# Altium integrated library Linear Technology Power Management Hot Swap Controllers.IntLib: 992 symbols (part 40 of 93)
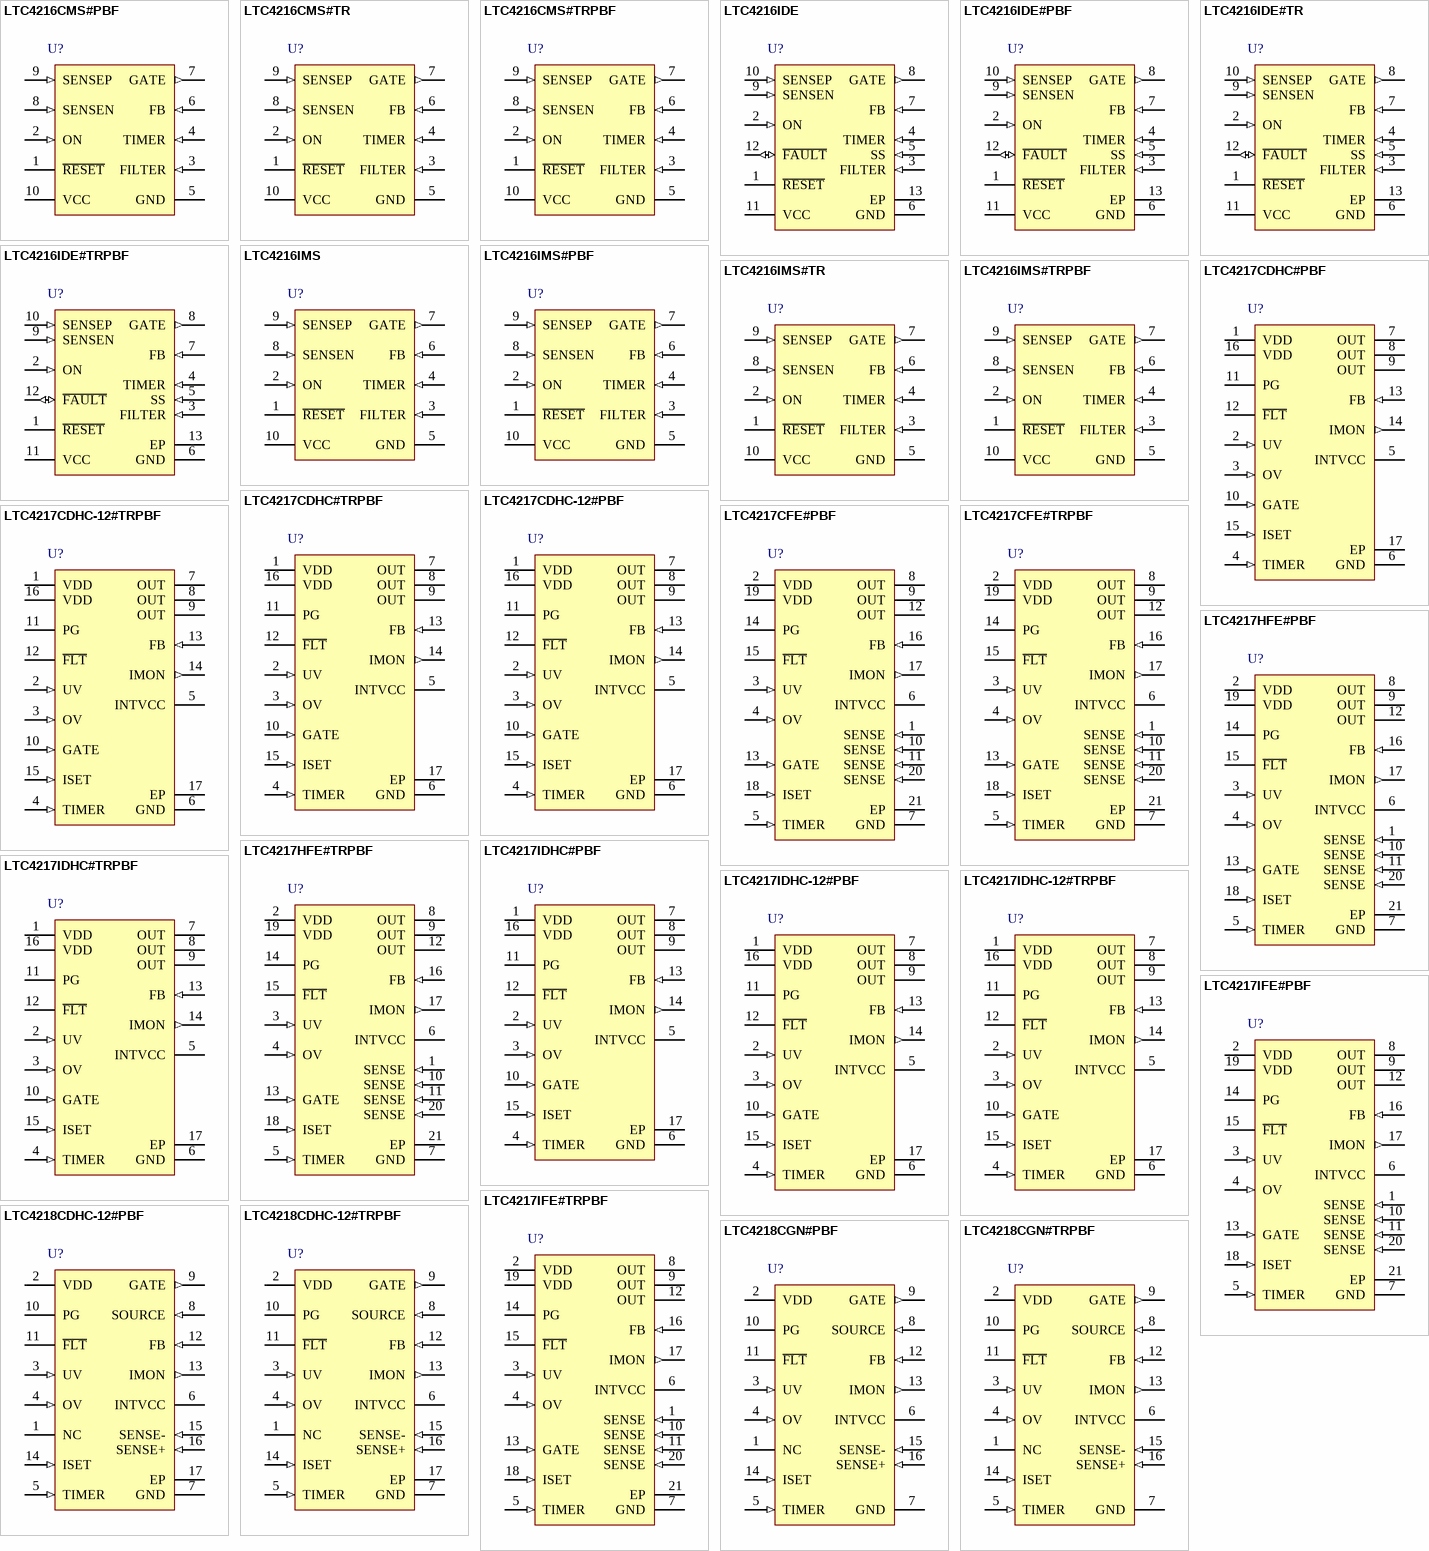
[diagram p76: symbols LTC4216CMS#PBF to LTC4218CGN#TRPBF]

## LTC4216IMS#TRPBF
designator U?
Ultralow Voltage Hot Swap Controller, 0 to 6 V Vin, 10-pin SOP (MS-10), -40 to 85 degC, Pb-Free, Tape and Reel; Manufacturer: Linear Technology; PartNumber: LTC4216IMS#TRPBF; Active Limiting: yes; Circuit Breaker Accuracy(%): 14; Circuit Breaker Threshold: 25 mV; Circuit Breakers(#): 1; Extended Temp: C, I; Fast Comparator: no; In-Rush Current: Active/SS; Vin Range: 0 to 6 V; DatasheetVersion: Rev. A; PackageVersion: Rev. E, 06/2010; PackageReference: MS-10; PackageDescription: 10-Pin Plastic MSOP, Body 3 x 3 mm, Pitch 0.5 mm; Supplier 1: Digi-Key; Supplier Part Number 1: LTC4216IMS#TRPBF-ND; Fault: yes; Foldback: no; Packing: Tape and Reel; Power Good: no; Reset: yes; RoHS: TRUE; Mounting Technology: Surface Mount; ComponentLink1Description: Manufacturer URL; ComponentLink1URL: http://www.linear.com/; ComponentLink2Description: Datasheet; ComponentLink2URL: http://cds.linear.com/docs/en/datasheet/4216fa.pdf; ComponentLink3Description: Package Specification; ComponentLink3URL: http://cds.linear.com/docs/en/packaging/05081661_F_MS.pdf
footprint LT-MS-10_N (SOP, 10-Leads, Body 3.1x3.1mm, Pitch 0.5mm, IPC Medium Density)
footprint LT-MS-10_L (SOP, 10-Leads, Body 3.1x3.1mm, Pitch 0.5mm, IPC High Density)
footprint LT-MS-10_M (SOP, 10-Leads, Body 3.1x3.1mm, Pitch 0.5mm, IPC Low Density)
pins: 1 ~{RESET} (hiz) "Reset or Power-Good Output. Open drain output that pulls low if the FB pin voltage falls below its threshold (0.6V). During the start-up cycle, the R\E\S\E\T\ pin goes high impedance at the end of the second timing cycle (See Datasheet)", 2 ON (in) "ON Control Input. A rising edge above the ON pin threshold (0.8V) initiates the start-up cycle and turns on the external N-channel MOSFET. A falling edge below 0.72V (80mV ON pin hysteresis) turns it off. If this pin is (See Datasheet)", 3 FILTER (in) "Fault Filter Input. Connect a capacitor between this pin and ground to set up the fault filter delay. This pin sources 60uA or sinks 2.4uA when the voltage across the sense resistor exceeds 25mV or drops below 25mV (See Datasheet)", 4 TIMER (in) "Timer Input. Connect a capacitor between this pin and ground to set up the start-up timing cycle duration. It also defines the R\E\S\E\T\ power-good delay from the instant the FB pin voltage exceeds 0.6V. This pin sources (See Datasheet)", 5 GND (power) "Device Ground.", 6 FB (in) "Output Monitor for Reset Output. A resistive divider from the external MOSFET’s source terminal is tied to this pin. When the voltage at this pin drops below 0.6V, the R\E\S\E\T\ pin pulls low. The FB comparator fallin(See Datasheet)", 7 GATE (out) "Gate Drive for External N-Channel MOSFET. An internal charge pump provides 20uA gate pull-up current and sufficient gate overdrive to the external MOSFET. An internal shunt regulator limits the GATE pin voltage to about 6.2V (See Datasheet)", 8 SENSEN (in) "Circuit Breaker Negative Sense Input. Connect this pin to the sense resistor terminal wired to the drain of the external N-channel MOSFET. The sense resistor is placed in the power path between SENSEP and SENSEN pins to (See Datasheet)", 9 SENSEP (in) "Circuit Breaker Positive Sense Input. Connect this pin to the sense resistor terminal wired to the positive supply input for the external output load. This positive supply range extends from 0V to 6V.", 10 VCC (power) "Bias Supply Input. Operates from 2.3V to 6V. An internal undervoltage lockout circuit disables the device until the input supply voltage at VCC exceeds 2.12V typically."

## LTC4217CDHC#PBF
designator U?
2 A Integrated Hot Swap Controller, 2.9 to 26.5 V Vin, 16-pin SON (DHC-16), 0 to 70 degC, Pb-Free; Manufacturer: Linear Technology; PartNumber: LTC4217CDHC#PBF; Active Limiting: yes; Circuit Breaker Accuracy(%): 7.5; Circuit Breaker Threshold: 2 A; Circuit Breakers(#): 1; Extended Temp: C, I, H; Fast Comparator: no; DatasheetVersion: Rev. E; PackageVersion: Jun-10; PackageReference: DHC-16; PackageDescription: 16-Pin Plastic DFN, Body 5 x 3 mm, Pitch 0.5 mm; Supplier 1: Digi-Key; Supplier Part Number 1: LTC4217CDHC#PBF-ND; Supplier 2: Newark; Supplier Part Number 2: 07P8322; Fault: no; Foldback: no; Power Good: yes; Reset: no; RoHS: TRUE; Vin Range: 2.9 to 26.5 V; Mounting Technology: Surface Mount; Code_JEDEC: MO-229; ComponentLink1Description: Manufacturer URL; ComponentLink1URL: http://www.linear.com/; ComponentLink2Description: Datasheet; ComponentLink2URL: http://cds.linear.com/docs/en/datasheet/4217fe.pdf; ComponentLink3Description: Package Specification; ComponentLink3URL: http://cds.linear.com/docs/en/packaging/DFN_16_05-08-1706.pdf
footprint LT-DHC-16_V (SON, 16-Leads, Body 5x3mm, Pitch 0.5mm, Thermal Pad 4.4X1.65mm)
pins: 1 VDD (power) "Supply Voltage and Current Sense Input. This pin  has an undervoltage lockout threshold of 2.73V.", 2 UV (in) "Undervoltage Comparator Input. Tie high if unused.  Connect this pin to an external resistive divider from VDD.  If the UV pin voltage falls below 1.15V, an undervoltage is  detected and the switch turns off. Pulling this (See Datasheet)", 3 OV (in) "Overvoltage Comparator Input. Connect this pin to an  external resistive divider from VDD. If the voltage at this  pin rises above 1.235V, an overvoltage is detected and  the switch turns off. Tie to GND if unused.", 4 TIMER (in) "Timer Input. Connect a capacitor between this pin  and ground to set a 12ms/uF duration for current limit  before the switch is turned off. If the UV pin is toggled  low while the MOSFET switch is off, the switch will turn  (See Datasheet)", 5 INTVCC (power) "Internal 3.1V Supply Decoupling Output. This pin  must have a 0.1uF or larger bypass capacitor.", 6 GND (power) "Device Ground.", 7 OUT (power) "Output of Internal MOSFET Switch. Connect this pin  directly to the load.", 8 OUT (power) "Output of Internal MOSFET Switch. Connect this pin  directly to the load.", 9 OUT (power) "Output of Internal MOSFET Switch. Connect this pin  directly to the load.", 10 GATE (in) "Gate Drive for Internal N-channel MOSFET. An  internal 24uA current source charges the gate of the  N-channel MOSFET. At start-up the GATE pin ramps up at  a 0.3V/ms rate determined by internal circuitry. During an  (See Datasheet)", 11 PG (oc) "Power Good Indicator. Open-drain output pulls low  when the FB pin drops below 1.21V indicating the power is  bad. If the FB pin rises above 1.23V and the GATE to OUT  voltage exceeds 4.2V, the open-drain pull-down releases  (See Datasheet)", 12 ~{FLT} (oc) "Overcurrent Fault Indicator. Open-drain output pulls  low when an overcurrent fault has occurred and the circuit  breaker trips. For overcurrent auto-retry tie to UV pin (see  the Applications Information section for (See Datasheet)", 13 FB (in) "Foldback and Power Good Input. Connect this pin to  an external resistive divider from OUT. If the voltage falls  below 0.6V, the current limit is reduced using a foldback  profile (see the Typical Performance (See Datasheet)", 14 IMON (out) "Current Monitor Output. The current in the internal  MOSFET switch is divided by 50,000 and sourced from this pin. Placing a 20k resistor from this pin to GND creates a  0V to 2V voltage swing when current ranges from 0A to (See Datasheet)", 15 ISET (in) "Current Limit Adjustment Pin. For a 5.6A current limit  value open this pin. This pin is driven by a 20k resistor in  series with a voltage source. The pin voltage is used to  generatethecurrentlimitthreshold. Theinternal (See Datasheet)", 16 VDD (power) "Supply Voltage and Current Sense Input. This pin  has an undervoltage lockout threshold of 2.73V.", 17 EP "Current Sense Node and MOSFET Drain. The current limit circuit controls the GATE pin to limit the sense  voltage between the VDD and SENSE pins to 42mV (5.6A)  or less depending on the voltage at the FB pin. The exposed  pad (See Datasheet)"

## LTC4217CDHC#TRPBF
designator U?
2 A Integrated Hot Swap Controller, 2.9 to 26.5 V Vin, 16-pin SON (DHC-16), 0 to 70 degC, Pb-Free, Tape and Reel; Manufacturer: Linear Technology; PartNumber: LTC4217CDHC#TRPBF; Active Limiting: yes; Circuit Breaker Accuracy(%): 7.5; Circuit Breaker Threshold: 2 A; Circuit Breakers(#): 1; Extended Temp: C, I, H; Fast Comparator: no; DatasheetVersion: Rev. E; PackageVersion: Jun-10; PackageReference: DHC-16; PackageDescription: 16-Pin Plastic DFN, Body 5 x 3 mm, Pitch 0.5 mm; Supplier 1: Digi-Key; Supplier Part Number 1: LTC4217CDHC#TRPBF-ND; Supplier 2: Newark; Supplier Part Number 2: 07P8323; Fault: no; Foldback: no; Packing: Tape and Reel; Power Good: yes; Reset: no; RoHS: TRUE; Vin Range: 2.9 to 26.5 V; Mounting Technology: Surface Mount; Code_JEDEC: MO-229; ComponentLink1Description: Manufacturer URL; ComponentLink1URL: http://www.linear.com/; ComponentLink2Description: Datasheet; ComponentLink2URL: http://cds.linear.com/docs/en/datasheet/4217fe.pdf; ComponentLink3Description: Package Specification; ComponentLink3URL: http://cds.linear.com/docs/en/packaging/DFN_16_05-08-1706.pdf
footprint LT-DHC-16_V (SON, 16-Leads, Body 5x3mm, Pitch 0.5mm, Thermal Pad 4.4X1.65mm)
pins: 1 VDD (power) "Supply Voltage and Current Sense Input. This pin  has an undervoltage lockout threshold of 2.73V.", 2 UV (in) "Undervoltage Comparator Input. Tie high if unused.  Connect this pin to an external resistive divider from VDD.  If the UV pin voltage falls below 1.15V, an undervoltage is  detected and the switch turns off. Pulling this (See Datasheet)", 3 OV (in) "Overvoltage Comparator Input. Connect this pin to an  external resistive divider from VDD. If the voltage at this  pin rises above 1.235V, an overvoltage is detected and  the switch turns off. Tie to GND if unused.", 4 TIMER (in) "Timer Input. Connect a capacitor between this pin  and ground to set a 12ms/uF duration for current limit  before the switch is turned off. If the UV pin is toggled  low while the MOSFET switch is off, the switch will turn  (See Datasheet)", 5 INTVCC (power) "Internal 3.1V Supply Decoupling Output. This pin  must have a 0.1uF or larger bypass capacitor.", 6 GND (power) "Device Ground.", 7 OUT (power) "Output of Internal MOSFET Switch. Connect this pin  directly to the load.", 8 OUT (power) "Output of Internal MOSFET Switch. Connect this pin  directly to the load.", 9 OUT (power) "Output of Internal MOSFET Switch. Connect this pin  directly to the load.", 10 GATE (in) "Gate Drive for Internal N-channel MOSFET. An  internal 24uA current source charges the gate of the  N-channel MOSFET. At start-up the GATE pin ramps up at  a 0.3V/ms rate determined by internal circuitry. During an  (See Datasheet)", 11 PG (oc) "Power Good Indicator. Open-drain output pulls low  when the FB pin drops below 1.21V indicating the power is  bad. If the FB pin rises above 1.23V and the GATE to OUT  voltage exceeds 4.2V, the open-drain pull-down releases  (See Datasheet)", 12 ~{FLT} (oc) "Overcurrent Fault Indicator. Open-drain output pulls  low when an overcurrent fault has occurred and the circuit  breaker trips. For overcurrent auto-retry tie to UV pin (see  the Applications Information section for (See Datasheet)", 13 FB (in) "Foldback and Power Good Input. Connect this pin to  an external resistive divider from OUT. If the voltage falls  below 0.6V, the current limit is reduced using a foldback  profile (see the Typical Performance (See Datasheet)", 14 IMON (out) "Current Monitor Output. The current in the internal  MOSFET switch is divided by 50,000 and sourced from this pin. Placing a 20k resistor from this pin to GND creates a  0V to 2V voltage swing when current ranges from 0A to (See Datasheet)", 15 ISET (in) "Current Limit Adjustment Pin. For a 5.6A current limit  value open this pin. This pin is driven by a 20k resistor in  series with a voltage source. The pin voltage is used to  generatethecurrentlimitthreshold. Theinternal (See Datasheet)", 16 VDD (power) "Supply Voltage and Current Sense Input. This pin  has an undervoltage lockout threshold of 2.73V.", 17 EP "Current Sense Node and MOSFET Drain. The current limit circuit controls the GATE pin to limit the sense  voltage between the VDD and SENSE pins to 42mV (5.6A)  or less depending on the voltage at the FB pin. The exposed  pad (See Datasheet)"

## LTC4217CDHC-12#PBF
designator U?
2 A Integrated Hot Swap Controller, 2.9 to 26.5 V Vin, 16-pin SON (DHC-16), 0 to 70 degC, Pb-Free; Manufacturer: Linear Technology; PartNumber: LTC4217CDHC-12#PBF; Active Limiting: yes; Circuit Breaker Accuracy(%): 7.5; Circuit Breaker Threshold: 2 A; Circuit Breakers(#): 1; Extended Temp: C, I, H; Fast Comparator: no; DatasheetVersion: Rev. E; PackageVersion: Jun-10; PackageReference: DHC-16; PackageDescription: 16-Pin Plastic DFN, Body 5 x 3 mm, Pitch 0.5 mm; Supplier 1: Digi-Key; Supplier Part Number 1: LTC4217CDHC-12#PBF-ND; Supplier 2: Farnell; Supplier Part Number 2: 1715249; Fault: no; Foldback: no; Power Good: yes; Reset: no; RoHS: TRUE; Vin Range: 2.9 to 26.5 V; Mounting Technology: Surface Mount; Code_JEDEC: MO-229; ComponentLink1Description: Manufacturer URL; ComponentLink1URL: http://www.linear.com/; ComponentLink2Description: Datasheet; ComponentLink2URL: http://cds.linear.com/docs/en/datasheet/4217fe.pdf; ComponentLink3Description: Package Specification; ComponentLink3URL: http://cds.linear.com/docs/en/packaging/DFN_16_05-08-1706.pdf
footprint LT-DHC-16_V (SON, 16-Leads, Body 5x3mm, Pitch 0.5mm, Thermal Pad 4.4X1.65mm)
pins: 1 VDD (power) "Supply Voltage and Current Sense Input. This pin  has an undervoltage lockout threshold of 2.73V.", 2 UV (in) "Undervoltage Comparator Input. Tie high if unused.  Connect this pin to an external resistive divider from VDD.  If the UV pin voltage falls below 1.15V, an undervoltage is  detected and the switch turns off. Pulling this (See Datasheet)", 3 OV (in) "Overvoltage Comparator Input. Connect this pin to an  external resistive divider from VDD. If the voltage at this  pin rises above 1.235V, an overvoltage is detected and  the switch turns off. Tie to GND if unused.", 4 TIMER (in) "Timer Input. Connect a capacitor between this pin  and ground to set a 12ms/uF duration for current limit  before the switch is turned off. If the UV pin is toggled  low while the MOSFET switch is off, the switch will turn  (See Datasheet)", 5 INTVCC (power) "Internal 3.1V Supply Decoupling Output. This pin  must have a 0.1uF or larger bypass capacitor.", 6 GND (power) "Device Ground.", 7 OUT (power) "Output of Internal MOSFET Switch. Connect this pin  directly to the load.", 8 OUT (power) "Output of Internal MOSFET Switch. Connect this pin  directly to the load.", 9 OUT (power) "Output of Internal MOSFET Switch. Connect this pin  directly to the load.", 10 GATE (in) "Gate Drive for Internal N-channel MOSFET. An  internal 24uA current source charges the gate of the  N-channel MOSFET. At start-up the GATE pin ramps up at  a 0.3V/ms rate determined by internal circuitry. During an  (See Datasheet)", 11 PG (oc) "Power Good Indicator. Open-drain output pulls low  when the FB pin drops below 1.21V indicating the power is  bad. If the FB pin rises above 1.23V and the GATE to OUT  voltage exceeds 4.2V, the open-drain pull-down releases  (See Datasheet)", 12 ~{FLT} (oc) "Overcurrent Fault Indicator. Open-drain output pulls  low when an overcurrent fault has occurred and the circuit  breaker trips. For overcurrent auto-retry tie to UV pin (see  the Applications Information section for (See Datasheet)", 13 FB (in) "Foldback and Power Good Input. Connect this pin to  an external resistive divider from OUT. If the voltage falls  below 0.6V, the current limit is reduced using a foldback  profile (see the Typical Performance (See Datasheet)", 14 IMON (out) "Current Monitor Output. The current in the internal  MOSFET switch is divided by 50,000 and sourced from this pin. Placing a 20k resistor from this pin to GND creates a  0V to 2V voltage swing when current ranges from 0A to (See Datasheet)", 15 ISET (in) "Current Limit Adjustment Pin. For a 5.6A current limit  value open this pin. This pin is driven by a 20k resistor in  series with a voltage source. The pin voltage is used to  generatethecurrentlimitthreshold. Theinternal (See Datasheet)", 16 VDD (power) "Supply Voltage and Current Sense Input. This pin  has an undervoltage lockout threshold of 2.73V.", 17 EP "Current Sense Node and MOSFET Drain. The current limit circuit controls the GATE pin to limit the sense  voltage between the VDD and SENSE pins to 42mV (5.6A)  or less depending on the voltage at the FB pin. The exposed  pad (See Datasheet)"

## LTC4217CDHC-12#TRPBF
designator U?
2 A Integrated Hot Swap Controller, 2.9 to 26.5 V Vin, 16-pin SON (DHC-16), 0 to 70 degC, Pb-Free, Tape and Reel; Manufacturer: Linear Technology; PartNumber: LTC4217CDHC-12#TRPBF; Active Limiting: yes; Circuit Breaker Accuracy(%): 7.5; Circuit Breaker Threshold: 2 A; Circuit Breakers(#): 1; Extended Temp: C, I, H; Fast Comparator: no; DatasheetVersion: Rev. E; PackageVersion: Jun-10; PackageReference: DHC-16; PackageDescription: 16-Pin Plastic DFN, Body 5 x 3 mm, Pitch 0.5 mm; Supplier 1: Digi-Key; Supplier Part Number 1: LTC4217CDHC-12#TRPBF-ND; Fault: no; Foldback: no; Packing: Tape and Reel; Power Good: yes; Reset: no; RoHS: TRUE; Vin Range: 2.9 to 26.5 V; Mounting Technology: Surface Mount; Code_JEDEC: MO-229; ComponentLink1Description: Manufacturer URL; ComponentLink1URL: http://www.linear.com/; ComponentLink2Description: Datasheet; ComponentLink2URL: http://cds.linear.com/docs/en/datasheet/4217fe.pdf; ComponentLink3Description: Package Specification; ComponentLink3URL: http://cds.linear.com/docs/en/packaging/DFN_16_05-08-1706.pdf
footprint LT-DHC-16_V (SON, 16-Leads, Body 5x3mm, Pitch 0.5mm, Thermal Pad 4.4X1.65mm)
pins: 1 VDD (power) "Supply Voltage and Current Sense Input. This pin  has an undervoltage lockout threshold of 2.73V.", 2 UV (in) "Undervoltage Comparator Input. Tie high if unused.  Connect this pin to an external resistive divider from VDD.  If the UV pin voltage falls below 1.15V, an undervoltage is  detected and the switch turns off. Pulling this (See Datasheet)", 3 OV (in) "Overvoltage Comparator Input. Connect this pin to an  external resistive divider from VDD. If the voltage at this  pin rises above 1.235V, an overvoltage is detected and  the switch turns off. Tie to GND if unused.", 4 TIMER (in) "Timer Input. Connect a capacitor between this pin  and ground to set a 12ms/uF duration for current limit  before the switch is turned off. If the UV pin is toggled  low while the MOSFET switch is off, the switch will turn  (See Datasheet)", 5 INTVCC (power) "Internal 3.1V Supply Decoupling Output. This pin  must have a 0.1uF or larger bypass capacitor.", 6 GND (power) "Device Ground.", 7 OUT (power) "Output of Internal MOSFET Switch. Connect this pin  directly to the load.", 8 OUT (power) "Output of Internal MOSFET Switch. Connect this pin  directly to the load.", 9 OUT (power) "Output of Internal MOSFET Switch. Connect this pin  directly to the load.", 10 GATE (in) "Gate Drive for Internal N-channel MOSFET. An  internal 24uA current source charges the gate of the  N-channel MOSFET. At start-up the GATE pin ramps up at  a 0.3V/ms rate determined by internal circuitry. During an  (See Datasheet)", 11 PG (oc) "Power Good Indicator. Open-drain output pulls low  when the FB pin drops below 1.21V indicating the power is  bad. If the FB pin rises above 1.23V and the GATE to OUT  voltage exceeds 4.2V, the open-drain pull-down releases  (See Datasheet)", 12 ~{FLT} (oc) "Overcurrent Fault Indicator. Open-drain output pulls  low when an overcurrent fault has occurred and the circuit  breaker trips. For overcurrent auto-retry tie to UV pin (see  the Applications Information section for (See Datasheet)", 13 FB (in) "Foldback and Power Good Input. Connect this pin to  an external resistive divider from OUT. If the voltage falls  below 0.6V, the current limit is reduced using a foldback  profile (see the Typical Performance (See Datasheet)", 14 IMON (out) "Current Monitor Output. The current in the internal  MOSFET switch is divided by 50,000 and sourced from this pin. Placing a 20k resistor from this pin to GND creates a  0V to 2V voltage swing when current ranges from 0A to (See Datasheet)", 15 ISET (in) "Current Limit Adjustment Pin. For a 5.6A current limit  value open this pin. This pin is driven by a 20k resistor in  series with a voltage source. The pin voltage is used to  generatethecurrentlimitthreshold. Theinternal (See Datasheet)", 16 VDD (power) "Supply Voltage and Current Sense Input. This pin  has an undervoltage lockout threshold of 2.73V.", 17 EP "Current Sense Node and MOSFET Drain. The current limit circuit controls the GATE pin to limit the sense  voltage between the VDD and SENSE pins to 42mV (5.6A)  or less depending on the voltage at the FB pin. The exposed  pad (See Datasheet)"

## LTC4217CFE#PBF
designator U?
2 A Integrated Hot Swap Controller, 2.9 to 26.5 V Vin, 20-pin SOP (FE-20-EPV-CA), 0 to 70 degC, Pb-Free; Manufacturer: Linear Technology; PartNumber: LTC4217CFE#PBF; Active Limiting: yes; Circuit Breaker Accuracy(%): 7.5; Circuit Breaker Threshold: 2 A; Circuit Breakers(#): 1; Extended Temp: C, I, H; Fast Comparator: no; DatasheetVersion: Rev. E; PackageVersion: Rev. I, 05/2011; PackageReference: FE-20; PackageDescription: 20-Pin Plastic TSSOP, Body 6.5 x 4.4 mm, Pitch 0.65 mm; Supplier 1: Digi-Key; Supplier Part Number 1: LTC4217CFE#PBF-ND; Supplier 2: Farnell; Supplier Part Number 2: 2295335; Fault: no; Foldback: no; Power Good: yes; Reset: no; RoHS: TRUE; Vin Range: 2.9 to 26.5 V; Mounting Technology: Surface Mount; ComponentLink1Description: Manufacturer URL; ComponentLink1URL: http://www.linear.com/; ComponentLink2Description: Datasheet; ComponentLink2URL: http://cds.linear.com/docs/en/datasheet/4217fe.pdf; ComponentLink3Description: Package Specification; ComponentLink3URL: http://cds.linear.com/docs/en/packaging/05081663__JFE20(CA).pdf
footprint LT-FE-20-EPV-CA_N (SOP, 20-Leads, Body 6.6x4.5mm, Pitch 0.65mm, Thermal Pad 4.95x2.74mm, IPC Medium Density)
footprint LT-FE-20-EPV-CA_L (SOP, 20-Leads, Body 6.6x4.5mm, Pitch 0.65mm, Thermal Pad 4.95x2.74mm, IPC High Density)
footprint LT-FE-20-EPV-CA_M (SOP, 20-Leads, Body 6.6x4.5mm, Pitch 0.65mm, Thermal Pad 4.95x2.74mm, IPC Low Density)
pins: 1 SENSE (in) "Current Sense Node and MOSFET Drain. The current limit circuit controls the GATE pin to limit the sense voltage between the VDD and SENSE pins to 15mV (2A) or less depending on the voltage at the FB pin. The exposed pad on (See Datasheet)", 2 VDD (power) "Supply Voltage and Current Sense Input. This pin has an undervoltage lockout threshold of 2.73V.", 3 UV (in) "Undervoltage Comparator Input. Tie high if unused. Connect this pin to an external resistive divider from VDD for the LTC4217 (adjustable) version. The LTC4217-12 version drives the UV pin with an internal resistive divider (See Datasheet)", 4 OV (in) "Overvoltage Comparator Input. Connect this pin to an external resistive divider from VDD for the LTC4217 (adjustable) version. The LTC4217-12 version uses a fixed internal divider with optional external adjustment for 12V (See Datasheet)", 5 TIMER (in) "Timer Input. Connect a capacitor between this pin and ground to set a 12ms/uF duration for current limit before the switch is turned off. If the UV pin is toggled low while the MOSFET switch is off, the switch will turn on (See Datasheet)", 6 INTVCC (power) "Internal 3V Supply Decoupling Output. This pin must have a 0.1uF or larger bypass capacitor.", 7 GND (power) "Device Ground.", 8 OUT (power) "Output of Internal MOSFET Switch. Connect this pin directly to the load. In the LTC4217-12 version, the PG comparator monitors an internal resistive divider between the OUT pin and GND.", 9 OUT (power) "Output of Internal MOSFET Switch. Connect this pin directly to the load. In the LTC4217-12 version, the PG comparator monitors an internal resistive divider between the OUT pin and GND.", 10 SENSE (in) "Current Sense Node and MOSFET Drain. The current limit circuit controls the GATE pin to limit the sense voltage between the VDD and SENSE pins to 15mV (2A) or less depending on the voltage at the FB pin. The exposed pad on (See Datasheet)", 11 SENSE (in) "Current Sense Node and MOSFET Drain. The current limit circuit controls the GATE pin to limit the sense voltage between the VDD and SENSE pins to 15mV (2A) or less depending on the voltage at the FB pin. The exposed pad on (See Datasheet)", 12 OUT (power) "Output of Internal MOSFET Switch. Connect this pin directly to the load. In the LTC4217-12 version, the PG comparator monitors an internal resistive divider between the OUT pin and GND.", 13 GATE (in) "Gate Drive for Internal N-channel MOSFET. An internal 24uA current source charges the gate of the N-channel MOSFET. At start-up the GATE pin ramps up at a 0.3V/ms rate determined by internal circuitry. During a(See Datasheet)", 14 PG (oc) "Power Good Indicator. Open-drain output pulls low when the FB pin drops below 1.21V indicating the power is bad. If the FB pin rises above 1.23V and the GATE to OUT voltage exceeds 4.2V, the open-drain pull-down releases the (See Datasheet)", 15 ~{FLT} (oc) "Overcurrent Fault Indicator. Open-drain output pulls low when an overcurrent fault has occurred and the circuit breaker trips. For overcurrent auto-retry tie to UV pin (see the Applications Information section for details).", 16 FB (in) "Foldback and Power Good Input. Connect this pin to an external resistive divider from OUT for the LTC4217 (adjustable) version. The LTC4217-12 version uses a fixed internal divider with optional external adjustment. Open the (See Datasheet)", 17 IMON (out) "Current Monitor Output. The current in the internal MOSFET switch is divided by 20,000 and sourced from this pin. Placing a 20k resistor from this pin to GND creates a 0V to 2V voltage swing when current ranges from 0A to 2A.", 18 ISET (in) "Current Limit Adjustment Pin. For a 2A current limit value open this pin. This pin is driven by a 20k resistor in series with a voltage source. The pin voltage is used to generate the current limit threshold. The internal (See Datasheet)", 19 VDD (power) "Supply Voltage and Current Sense Input. This pin has an undervoltage lockout threshold of 2.73V.", 20 SENSE (in) "Current Sense Node and MOSFET Drain. The current limit circuit controls the GATE pin to limit the sense voltage between the VDD and SENSE pins to 15mV (2A) or less depending on the voltage at the FB pin. The exposed pad on (See Datasheet)", 21 EP

## LTC4217CFE#TRPBF
designator U?
2 A Integrated Hot Swap Controller, 2.9 to 26.5 V Vin, 20-pin SOP (FE-20-EPV-CA), 0 to 70 degC, Pb-Free, Tape and Reel; Manufacturer: Linear Technology; PartNumber: LTC4217CFE#TRPBF; Active Limiting: yes; Circuit Breaker Accuracy(%): 7.5; Circuit Breaker Threshold: 2 A; Circuit Breakers(#): 1; Extended Temp: C, I, H; Fast Comparator: no; DatasheetVersion: Rev. E; PackageVersion: Rev. I, 05/2011; PackageReference: FE-20; PackageDescription: 20-Pin Plastic TSSOP, Body 6.5 x 4.4 mm, Pitch 0.65 mm; Supplier 1: Digi-Key; Supplier Part Number 1: LTC4217CFE#TRPBF-ND; Supplier 2: Newark; Supplier Part Number 2: 07P8327; Fault: no; Foldback: no; Packing: Tape and Reel; Power Good: yes; Reset: no; RoHS: TRUE; Vin Range: 2.9 to 26.5 V; Mounting Technology: Surface Mount; ComponentLink1Description: Manufacturer URL; ComponentLink1URL: http://www.linear.com/; ComponentLink2Description: Datasheet; ComponentLink2URL: http://cds.linear.com/docs/en/datasheet/4217fe.pdf; ComponentLink3Description: Package Specification; ComponentLink3URL: http://cds.linear.com/docs/en/packaging/05081663__JFE20(CA).pdf
footprint LT-FE-20-EPV-CA_N (SOP, 20-Leads, Body 6.6x4.5mm, Pitch 0.65mm, Thermal Pad 4.95x2.74mm, IPC Medium Density)
footprint LT-FE-20-EPV-CA_L (SOP, 20-Leads, Body 6.6x4.5mm, Pitch 0.65mm, Thermal Pad 4.95x2.74mm, IPC High Density)
footprint LT-FE-20-EPV-CA_M (SOP, 20-Leads, Body 6.6x4.5mm, Pitch 0.65mm, Thermal Pad 4.95x2.74mm, IPC Low Density)
pins: 1 SENSE (in) "Current Sense Node and MOSFET Drain. The current limit circuit controls the GATE pin to limit the sense voltage between the VDD and SENSE pins to 15mV (2A) or less depending on the voltage at the FB pin. The exposed pad on (See Datasheet)", 2 VDD (power) "Supply Voltage and Current Sense Input. This pin has an undervoltage lockout threshold of 2.73V.", 3 UV (in) "Undervoltage Comparator Input. Tie high if unused. Connect this pin to an external resistive divider from VDD for the LTC4217 (adjustable) version. The LTC4217-12 version drives the UV pin with an internal resistive divider (See Datasheet)", 4 OV (in) "Overvoltage Comparator Input. Connect this pin to an external resistive divider from VDD for the LTC4217 (adjustable) version. The LTC4217-12 version uses a fixed internal divider with optional external adjustment for 12V (See Datasheet)", 5 TIMER (in) "Timer Input. Connect a capacitor between this pin and ground to set a 12ms/uF duration for current limit before the switch is turned off. If the UV pin is toggled low while the MOSFET switch is off, the switch will turn on (See Datasheet)", 6 INTVCC (power) "Internal 3V Supply Decoupling Output. This pin must have a 0.1uF or larger bypass capacitor.", 7 GND (power) "Device Ground.", 8 OUT (power) "Output of Internal MOSFET Switch. Connect this pin directly to the load. In the LTC4217-12 version, the PG comparator monitors an internal resistive divider between the OUT pin and GND.", 9 OUT (power) "Output of Internal MOSFET Switch. Connect this pin directly to the load. In the LTC4217-12 version, the PG comparator monitors an internal resistive divider between the OUT pin and GND.", 10 SENSE (in) "Current Sense Node and MOSFET Drain. The current limit circuit controls the GATE pin to limit the sense voltage between the VDD and SENSE pins to 15mV (2A) or less depending on the voltage at the FB pin. The exposed pad on (See Datasheet)", 11 SENSE (in) "Current Sense Node and MOSFET Drain. The current limit circuit controls the GATE pin to limit the sense voltage between the VDD and SENSE pins to 15mV (2A) or less depending on the voltage at the FB pin. The exposed pad on (See Datasheet)", 12 OUT (power) "Output of Internal MOSFET Switch. Connect this pin directly to the load. In the LTC4217-12 version, the PG comparator monitors an internal resistive divider between the OUT pin and GND.", 13 GATE (in) "Gate Drive for Internal N-channel MOSFET. An internal 24uA current source charges the gate of the N-channel MOSFET. At start-up the GATE pin ramps up at a 0.3V/ms rate determined by internal circuitry. During a(See Datasheet)", 14 PG (oc) "Power Good Indicator. Open-drain output pulls low when the FB pin drops below 1.21V indicating the power is bad. If the FB pin rises above 1.23V and the GATE to OUT voltage exceeds 4.2V, the open-drain pull-down releases the (See Datasheet)", 15 ~{FLT} (oc) "Overcurrent Fault Indicator. Open-drain output pulls low when an overcurrent fault has occurred and the circuit breaker trips. For overcurrent auto-retry tie to UV pin (see the Applications Information section for details).", 16 FB (in) "Foldback and Power Good Input. Connect this pin to an external resistive divider from OUT for the LTC4217 (adjustable) version. The LTC4217-12 version uses a fixed internal divider with optional external adjustment. Open the (See Datasheet)", 17 IMON (out) "Current Monitor Output. The current in the internal MOSFET switch is divided by 20,000 and sourced from this pin. Placing a 20k resistor from this pin to GND creates a 0V to 2V voltage swing when current ranges from 0A to 2A.", 18 ISET (in) "Current Limit Adjustment Pin. For a 2A current limit value open this pin. This pin is driven by a 20k resistor in series with a voltage source. The pin voltage is used to generate the current limit threshold. The internal (See Datasheet)", 19 VDD (power) "Supply Voltage and Current Sense Input. This pin has an undervoltage lockout threshold of 2.73V.", 20 SENSE (in) "Current Sense Node and MOSFET Drain. The current limit circuit controls the GATE pin to limit the sense voltage between the VDD and SENSE pins to 15mV (2A) or less depending on the voltage at the FB pin. The exposed pad on (See Datasheet)", 21 EP

## LTC4217HFE#PBF
designator U?
2 A Integrated Hot Swap Controller, 2.9 to 26.5 V Vin, 20-pin SOP (FE-20-EPV-CA), -40 to 125 degC, Pb-Free; Manufacturer: Linear Technology; PartNumber: LTC4217HFE#PBF; Active Limiting: yes; Circuit Breaker Accuracy(%): 7.5; Circuit Breaker Threshold: 2 A; Circuit Breakers(#): 1; Extended Temp: C, I, H; Fast Comparator: no; DatasheetVersion: Rev. E; PackageVersion: Rev. I, 05/2011; PackageReference: FE-20; PackageDescription: 20-Pin Plastic TSSOP, Body 6.5 x 4.4 mm, Pitch 0.65 mm; Supplier 1: Digi-Key; Supplier Part Number 1: LTC4217HFE#PBF-ND; Fault: no; Foldback: no; Power Good: yes; Reset: no; RoHS: TRUE; Vin Range: 2.9 to 26.5 V; Mounting Technology: Surface Mount; ComponentLink1Description: Manufacturer URL; ComponentLink1URL: http://www.linear.com/; ComponentLink2Description: Datasheet; ComponentLink2URL: http://cds.linear.com/docs/en/datasheet/4217fe.pdf; ComponentLink3Description: Package Specification; ComponentLink3URL: http://cds.linear.com/docs/en/packaging/05081663__JFE20(CA).pdf
footprint LT-FE-20-EPV-CA_N (SOP, 20-Leads, Body 6.6x4.5mm, Pitch 0.65mm, Thermal Pad 4.95x2.74mm, IPC Medium Density)
footprint LT-FE-20-EPV-CA_L (SOP, 20-Leads, Body 6.6x4.5mm, Pitch 0.65mm, Thermal Pad 4.95x2.74mm, IPC High Density)
footprint LT-FE-20-EPV-CA_M (SOP, 20-Leads, Body 6.6x4.5mm, Pitch 0.65mm, Thermal Pad 4.95x2.74mm, IPC Low Density)
pins: 1 SENSE (in) "Current Sense Node and MOSFET Drain. The current limit circuit controls the GATE pin to limit the sense voltage between the VDD and SENSE pins to 15mV (2A) or less depending on the voltage at the FB pin. The exposed pad on (See Datasheet)", 2 VDD (power) "Supply Voltage and Current Sense Input. This pin has an undervoltage lockout threshold of 2.73V.", 3 UV (in) "Undervoltage Comparator Input. Tie high if unused. Connect this pin to an external resistive divider from VDD for the LTC4217 (adjustable) version. The LTC4217-12 version drives the UV pin with an internal resistive divider (See Datasheet)", 4 OV (in) "Overvoltage Comparator Input. Connect this pin to an external resistive divider from VDD for the LTC4217 (adjustable) version. The LTC4217-12 version uses a fixed internal divider with optional external adjustment for 12V (See Datasheet)", 5 TIMER (in) "Timer Input. Connect a capacitor between this pin and ground to set a 12ms/uF duration for current limit before the switch is turned off. If the UV pin is toggled low while the MOSFET switch is off, the switch will turn on (See Datasheet)", 6 INTVCC (power) "Internal 3V Supply Decoupling Output. This pin must have a 0.1uF or larger bypass capacitor.", 7 GND (power) "Device Ground.", 8 OUT (power) "Output of Internal MOSFET Switch. Connect this pin directly to the load. In the LTC4217-12 version, the PG comparator monitors an internal resistive divider between the OUT pin and GND.", 9 OUT (power) "Output of Internal MOSFET Switch. Connect this pin directly to the load. In the LTC4217-12 version, the PG comparator monitors an internal resistive divider between the OUT pin and GND.", 10 SENSE (in) "Current Sense Node and MOSFET Drain. The current limit circuit controls the GATE pin to limit the sense voltage between the VDD and SENSE pins to 15mV (2A) or less depending on the voltage at the FB pin. The exposed pad on (See Datasheet)", 11 SENSE (in) "Current Sense Node and MOSFET Drain. The current limit circuit controls the GATE pin to limit the sense voltage between the VDD and SENSE pins to 15mV (2A) or less depending on the voltage at the FB pin. The exposed pad on (See Datasheet)", 12 OUT (power) "Output of Internal MOSFET Switch. Connect this pin directly to the load. In the LTC4217-12 version, the PG comparator monitors an internal resistive divider between the OUT pin and GND.", 13 GATE (in) "Gate Drive for Internal N-channel MOSFET. An internal 24uA current source charges the gate of the N-channel MOSFET. At start-up the GATE pin ramps up at a 0.3V/ms rate determined by internal circuitry. During a(See Datasheet)", 14 PG (oc) "Power Good Indicator. Open-drain output pulls low when the FB pin drops below 1.21V indicating the power is bad. If the FB pin rises above 1.23V and the GATE to OUT voltage exceeds 4.2V, the open-drain pull-down releases the (See Datasheet)", 15 ~{FLT} (oc) "Overcurrent Fault Indicator. Open-drain output pulls low when an overcurrent fault has occurred and the circuit breaker trips. For overcurrent auto-retry tie to UV pin (see the Applications Information section for details).", 16 FB (in) "Foldback and Power Good Input. Connect this pin to an external resistive divider from OUT for the LTC4217 (adjustable) version. The LTC4217-12 version uses a fixed internal divider with optional external adjustment. Open the (See Datasheet)", 17 IMON (out) "Current Monitor Output. The current in the internal MOSFET switch is divided by 20,000 and sourced from this pin. Placing a 20k resistor from this pin to GND creates a 0V to 2V voltage swing when current ranges from 0A to 2A.", 18 ISET (in) "Current Limit Adjustment Pin. For a 2A current limit value open this pin. This pin is driven by a 20k resistor in series with a voltage source. The pin voltage is used to generate the current limit threshold. The internal (See Datasheet)", 19 VDD (power) "Supply Voltage and Current Sense Input. This pin has an undervoltage lockout threshold of 2.73V.", 20 SENSE (in) "Current Sense Node and MOSFET Drain. The current limit circuit controls the GATE pin to limit the sense voltage between the VDD and SENSE pins to 15mV (2A) or less depending on the voltage at the FB pin. The exposed pad on (See Datasheet)", 21 EP

## LTC4217HFE#TRPBF
designator U?
2 A Integrated Hot Swap Controller, 2.9 to 26.5 V Vin, 20-pin SOP (FE-20-EPV-CA), -40 to 125 degC, Pb-Free, Tape and Reel; Manufacturer: Linear Technology; PartNumber: LTC4217HFE#TRPBF; Active Limiting: yes; Circuit Breaker Accuracy(%): 7.5; Circuit Breaker Threshold: 2 A; Circuit Breakers(#): 1; Extended Temp: C, I, H; Fast Comparator: no; DatasheetVersion: Rev. E; PackageVersion: Rev. I, 05/2011; PackageReference: FE-20; PackageDescription: 20-Pin Plastic TSSOP, Body 6.5 x 4.4 mm, Pitch 0.65 mm; Supplier 1: Digi-Key; Supplier Part Number 1: LTC4217HFE#TRPBF-ND; Fault: no; Foldback: no; Packing: Tape and Reel; Power Good: yes; Reset: no; RoHS: TRUE; Vin Range: 2.9 to 26.5 V; Mounting Technology: Surface Mount; ComponentLink1Description: Manufacturer URL; ComponentLink1URL: http://www.linear.com/; ComponentLink2Description: Datasheet; ComponentLink2URL: http://cds.linear.com/docs/en/datasheet/4217fe.pdf; ComponentLink3Description: Package Specification; ComponentLink3URL: http://cds.linear.com/docs/en/packaging/05081663__JFE20(CA).pdf
footprint LT-FE-20-EPV-CA_N (SOP, 20-Leads, Body 6.6x4.5mm, Pitch 0.65mm, Thermal Pad 4.95x2.74mm, IPC Medium Density)
footprint LT-FE-20-EPV-CA_L (SOP, 20-Leads, Body 6.6x4.5mm, Pitch 0.65mm, Thermal Pad 4.95x2.74mm, IPC High Density)
footprint LT-FE-20-EPV-CA_M (SOP, 20-Leads, Body 6.6x4.5mm, Pitch 0.65mm, Thermal Pad 4.95x2.74mm, IPC Low Density)
pins: 1 SENSE (in) "Current Sense Node and MOSFET Drain. The current limit circuit controls the GATE pin to limit the sense voltage between the VDD and SENSE pins to 15mV (2A) or less depending on the voltage at the FB pin. The exposed pad on (See Datasheet)", 2 VDD (power) "Supply Voltage and Current Sense Input. This pin has an undervoltage lockout threshold of 2.73V.", 3 UV (in) "Undervoltage Comparator Input. Tie high if unused. Connect this pin to an external resistive divider from VDD for the LTC4217 (adjustable) version. The LTC4217-12 version drives the UV pin with an internal resistive divider (See Datasheet)", 4 OV (in) "Overvoltage Comparator Input. Connect this pin to an external resistive divider from VDD for the LTC4217 (adjustable) version. The LTC4217-12 version uses a fixed internal divider with optional external adjustment for 12V (See Datasheet)", 5 TIMER (in) "Timer Input. Connect a capacitor between this pin and ground to set a 12ms/uF duration for current limit before the switch is turned off. If the UV pin is toggled low while the MOSFET switch is off, the switch will turn on (See Datasheet)", 6 INTVCC (power) "Internal 3V Supply Decoupling Output. This pin must have a 0.1uF or larger bypass capacitor.", 7 GND (power) "Device Ground.", 8 OUT (power) "Output of Internal MOSFET Switch. Connect this pin directly to the load. In the LTC4217-12 version, the PG comparator monitors an internal resistive divider between the OUT pin and GND.", 9 OUT (power) "Output of Internal MOSFET Switch. Connect this pin directly to the load. In the LTC4217-12 version, the PG comparator monitors an internal resistive divider between the OUT pin and GND.", 10 SENSE (in) "Current Sense Node and MOSFET Drain. The current limit circuit controls the GATE pin to limit the sense voltage between the VDD and SENSE pins to 15mV (2A) or less depending on the voltage at the FB pin. The exposed pad on (See Datasheet)", 11 SENSE (in) "Current Sense Node and MOSFET Drain. The current limit circuit controls the GATE pin to limit the sense voltage between the VDD and SENSE pins to 15mV (2A) or less depending on the voltage at the FB pin. The exposed pad on (See Datasheet)", 12 OUT (power) "Output of Internal MOSFET Switch. Connect this pin directly to the load. In the LTC4217-12 version, the PG comparator monitors an internal resistive divider between the OUT pin and GND.", 13 GATE (in) "Gate Drive for Internal N-channel MOSFET. An internal 24uA current source charges the gate of the N-channel MOSFET. At start-up the GATE pin ramps up at a 0.3V/ms rate determined by internal circuitry. During a(See Datasheet)", 14 PG (oc) "Power Good Indicator. Open-drain output pulls low when the FB pin drops below 1.21V indicating the power is bad. If the FB pin rises above 1.23V and the GATE to OUT voltage exceeds 4.2V, the open-drain pull-down releases the (See Datasheet)", 15 ~{FLT} (oc) "Overcurrent Fault Indicator. Open-drain output pulls low when an overcurrent fault has occurred and the circuit breaker trips. For overcurrent auto-retry tie to UV pin (see the Applications Information section for details).", 16 FB (in) "Foldback and Power Good Input. Connect this pin to an external resistive divider from OUT for the LTC4217 (adjustable) version. The LTC4217-12 version uses a fixed internal divider with optional external adjustment. Open the (See Datasheet)", 17 IMON (out) "Current Monitor Output. The current in the internal MOSFET switch is divided by 20,000 and sourced from this pin. Placing a 20k resistor from this pin to GND creates a 0V to 2V voltage swing when current ranges from 0A to 2A.", 18 ISET (in) "Current Limit Adjustment Pin. For a 2A current limit value open this pin. This pin is driven by a 20k resistor in series with a voltage source. The pin voltage is used to generate the current limit threshold. The internal (See Datasheet)", 19 VDD (power) "Supply Voltage and Current Sense Input. This pin has an undervoltage lockout threshold of 2.73V.", 20 SENSE (in) "Current Sense Node and MOSFET Drain. The current limit circuit controls the GATE pin to limit the sense voltage between the VDD and SENSE pins to 15mV (2A) or less depending on the voltage at the FB pin. The exposed pad on (See Datasheet)", 21 EP

## LTC4217IDHC#PBF
designator U?
2 A Integrated Hot Swap Controller, 2.9 to 26.5 V Vin, 16-pin SON (DHC-16), -40 to 85 degC, Pb-Free; Manufacturer: Linear Technology; PartNumber: LTC4217IDHC#PBF; Active Limiting: yes; Circuit Breaker Accuracy(%): 7.5; Circuit Breaker Threshold: 2 A; Circuit Breakers(#): 1; Extended Temp: C, I, H; Fast Comparator: no; DatasheetVersion: Rev. E; PackageVersion: Jun-10; PackageReference: DHC-16; PackageDescription: 16-Pin Plastic DFN, Body 5 x 3 mm, Pitch 0.5 mm; Supplier 1: Digi-Key; Supplier Part Number 1: LTC4217IDHC#PBF-ND; Supplier 2: Farnell; Supplier Part Number 2: 2295336; Supplier 3: Newark; Supplier Part Number 3: 07P8330; Fault: no; Foldback: no; Power Good: yes; Reset: no; RoHS: TRUE; Vin Range: 2.9 to 26.5 V; Mounting Technology: Surface Mount; Code_JEDEC: MO-229; ComponentLink1Description: Manufacturer URL; ComponentLink1URL: http://www.linear.com/; ComponentLink2Description: Datasheet; ComponentLink2URL: http://cds.linear.com/docs/en/datasheet/4217fe.pdf; ComponentLink3Description: Package Specification; ComponentLink3URL: http://cds.linear.com/docs/en/packaging/DFN_16_05-08-1706.pdf
footprint LT-DHC-16_V (SON, 16-Leads, Body 5x3mm, Pitch 0.5mm, Thermal Pad 4.4X1.65mm)
pins: 1 VDD (power) "Supply Voltage and Current Sense Input. This pin  has an undervoltage lockout threshold of 2.73V.", 2 UV (in) "Undervoltage Comparator Input. Tie high if unused.  Connect this pin to an external resistive divider from VDD.  If the UV pin voltage falls below 1.15V, an undervoltage is  detected and the switch turns off. Pulling this (See Datasheet)", 3 OV (in) "Overvoltage Comparator Input. Connect this pin to an  external resistive divider from VDD. If the voltage at this  pin rises above 1.235V, an overvoltage is detected and  the switch turns off. Tie to GND if unused.", 4 TIMER (in) "Timer Input. Connect a capacitor between this pin  and ground to set a 12ms/uF duration for current limit  before the switch is turned off. If the UV pin is toggled  low while the MOSFET switch is off, the switch will turn  (See Datasheet)", 5 INTVCC (power) "Internal 3.1V Supply Decoupling Output. This pin  must have a 0.1uF or larger bypass capacitor.", 6 GND (power) "Device Ground.", 7 OUT (power) "Output of Internal MOSFET Switch. Connect this pin  directly to the load.", 8 OUT (power) "Output of Internal MOSFET Switch. Connect this pin  directly to the load.", 9 OUT (power) "Output of Internal MOSFET Switch. Connect this pin  directly to the load.", 10 GATE (in) "Gate Drive for Internal N-channel MOSFET. An  internal 24uA current source charges the gate of the  N-channel MOSFET. At start-up the GATE pin ramps up at  a 0.3V/ms rate determined by internal circuitry. During an  (See Datasheet)", 11 PG (oc) "Power Good Indicator. Open-drain output pulls low  when the FB pin drops below 1.21V indicating the power is  bad. If the FB pin rises above 1.23V and the GATE to OUT  voltage exceeds 4.2V, the open-drain pull-down releases  (See Datasheet)", 12 ~{FLT} (oc) "Overcurrent Fault Indicator. Open-drain output pulls  low when an overcurrent fault has occurred and the circuit  breaker trips. For overcurrent auto-retry tie to UV pin (see  the Applications Information section for (See Datasheet)", 13 FB (in) "Foldback and Power Good Input. Connect this pin to  an external resistive divider from OUT. If the voltage falls  below 0.6V, the current limit is reduced using a foldback  profile (see the Typical Performance (See Datasheet)", 14 IMON (out) "Current Monitor Output. The current in the internal  MOSFET switch is divided by 50,000 and sourced from this pin. Placing a 20k resistor from this pin to GND creates a  0V to 2V voltage swing when current ranges from 0A to (See Datasheet)", 15 ISET (in) "Current Limit Adjustment Pin. For a 5.6A current limit  value open this pin. This pin is driven by a 20k resistor in  series with a voltage source. The pin voltage is used to  generatethecurrentlimitthreshold. Theinternal (See Datasheet)", 16 VDD (power) "Supply Voltage and Current Sense Input. This pin  has an undervoltage lockout threshold of 2.73V.", 17 EP "Current Sense Node and MOSFET Drain. The current limit circuit controls the GATE pin to limit the sense  voltage between the VDD and SENSE pins to 42mV (5.6A)  or less depending on the voltage at the FB pin. The exposed  pad (See Datasheet)"